# EAGLE library part ZX-EDGE (library yabus)
Opposite part for ZX-Spectrum system bus
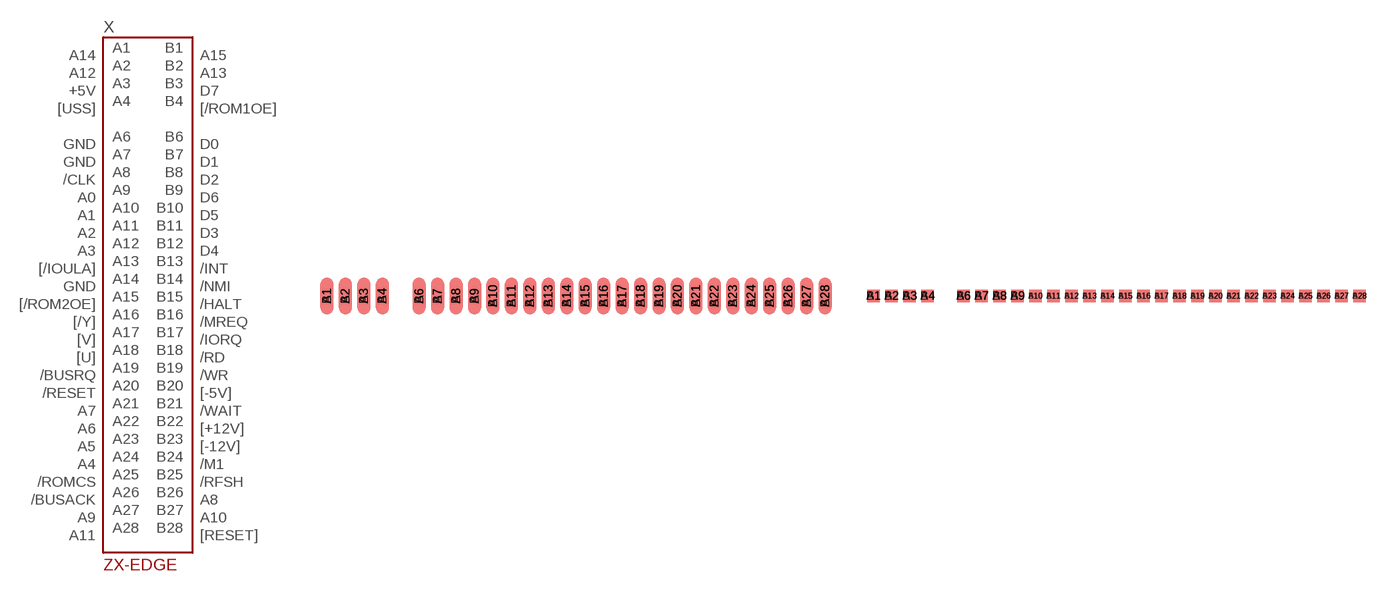
[diagram p0: symbol with the pads of ZX-IFACE; footprints ZX-IFACE, ZX-SLOT]

Designator prefix X

## ZX-EDGE  [ZX-IFACE]
A1  A14
A2  A12
A3  +5V
A4  [USS]
A6  GND
A7  GND
A8  /CLK
A9  A0
A10  A1
A11  A2
A12  A3
A13  [/IOULA]
A14  GND
A15  [/ROM2OE]
A16  [/Y]
A17  [V]
A18  [U]
A19  /BUSRQ
A20  /RESET
A21  A7
A22  A6
A23  A5
A24  A4
A25  /ROMCS
A26  /BUSACK
A27  A9
A28  A11
B1  A15
B2  A13
B3  D7
B4  [/ROM1OE]
B6  D0
B7  D1
B8  D2
B9  D6
B10  D5
B11  D3
B12  D4
B13  /INT
B14  /NMI
B15  /HALT
B16  /MREQ
B17  /IORQ
B18  /RD
B19  /WR
B20  [-5V]
B21  /WAIT
B22  [+12V]
B23  [-12V]
B24  /M1
B25  /RFSH
B26  A8
B27  A10
B28  [RESET]

## ZX-EDGEF  [ZX-SLOT]
Pads as for ZX-IFACE

## ZX-EDGET  [ZX-THR]
1A  A15
1B  A14
2A  A13
2B  A12
3A  D7
3B  +5V
4A  [/ROM1OE]
4B  [USS]
6A  D0
6B  GND
7A  D1
7B  GND
8A  D2
8B  /CLK
9A  D6
9B  A0
10A  D5
10B  A1
11A  D3
11B  A2
12A  D4
12B  A3
13A  /INT
13B  [/IOULA]
14A  /NMI
14B  GND
15A  /HALT
15B  [/ROM2OE]
16A  /MREQ
16B  [/Y]
17A  /IORQ
17B  [V]
18A  /RD
18B  [U]
19A  /WR
19B  /BUSRQ
20A  [-5V]
20B  /RESET
21A  /WAIT
21B  A7
22A  [+12V]
22B  A6
23A  [-12V]
23B  A5
24A  /M1
24B  A4
25A  /RFSH
25B  /ROMCS
26A  A8
26B  /BUSACK
27A  A10
27B  A9
28A  [RESET]
28B  A11

## Footprint ZX-IFACE (pad centres in mm)
smd 1.778 x 5.08 bottom: A1 0,0; A2 2.54,0; A3 5.08,0; A4 7.62,0; A6 12.7,0; A7 15.24,0; A8 17.78,0; A9 20.32,0; A10 22.86,0; A11 25.4,0; A12 27.94,0; A13 30.48,0; A14 33.02,0; A15 35.56,0; A16 38.1,0; A17 40.64,0; A18 43.18,0; A19 45.72,0; A20 48.26,0; A21 50.8,0; A22 53.34,0; A23 55.88,0; A24 58.42,0; A25 60.96,0; A26 63.5,0; A27 66.04,0; A28 68.58,0
smd 1.778 x 5.08: B1 0,0; B2 2.54,0; B3 5.08,0; B4 7.62,0; B6 12.7,0; B7 15.24,0; B8 17.78,0; B9 20.32,0; B10 22.86,0; B11 25.4,0; B12 27.94,0; B13 30.48,0; B14 33.02,0; B15 35.56,0; B16 38.1,0; B17 40.64,0; B18 43.18,0; B19 45.72,0; B20 48.26,0; B21 50.8,0; B22 53.34,0; B23 55.88,0; B24 58.42,0; B25 60.96,0; B26 63.5,0; B27 66.04,0; B28 68.58,0

## Footprint ZX-SLOT (pad centres in mm)
smd 1.778 x 1.778 bottom: A1 0,0; A2 2.54,0; A3 5.08,0; A4 7.62,0; A6 12.7,0; A7 15.24,0; A8 17.78,0; A9 20.32,0; A10 22.86,0; A11 25.4,0; A12 27.94,0; A13 30.48,0; A14 33.02,0; A15 35.56,0; A16 38.1,0; A17 40.64,0; A18 43.18,0; A19 45.72,0; A20 48.26,0; A21 50.8,0; A22 53.34,0; A23 55.88,0; A24 58.42,0; A25 60.96,0; A26 63.5,0; A27 66.04,0; A28 68.58,0
smd 1.778 x 1.778: B1 0,0; B2 2.54,0; B3 5.08,0; B4 7.62,0; B6 12.7,0; B7 15.24,0; B8 17.78,0; B9 20.32,0; B10 22.86,0; B11 25.4,0; B12 27.94,0; B13 30.48,0; B14 33.02,0; B15 35.56,0; B16 38.1,0; B17 40.64,0; B18 43.18,0; B19 45.72,0; B20 48.26,0; B21 50.8,0; B22 53.34,0; B23 55.88,0; B24 58.42,0; B25 60.96,0; B26 63.5,0; B27 66.04,0; B28 68.58,0

## Footprint ZX-THR (pad centres in mm)
drill 1.016 square: 1A -34.29,2.54
drill 1.016: 1B -34.29,-2.54; 2A -31.75,2.54; 2B -31.75,-2.54; 3A -29.21,2.54; 3B -29.21,-2.54; 4A -26.67,2.54; 4B -26.67,-2.54; 6A -21.59,2.54; 6B -21.59,-2.54; 7A -19.05,2.54; 7B -19.05,-2.54; 8A -16.51,2.54; 8B -16.51,-2.54; 9A -13.97,2.54; 9B -13.97,-2.54; 10A -11.43,2.54; 10B -11.43,-2.54; 11A -8.89,2.54; 11B -8.89,-2.54; 12A -6.35,2.54; 12B -6.35,-2.54; 13A -3.81,2.54; 13B -3.81,-2.54; 14A -1.27,2.54; 14B -1.27,-2.54; 15A 1.27,2.54; 15B 1.27,-2.54; 16A 3.81,2.54; 16B 3.81,-2.54; 17A 6.35,2.54; 17B 6.35,-2.54; 18A 8.89,2.54; 18B 8.89,-2.54; 19A 11.43,2.54; 19B 11.43,-2.54; 20A 13.97,2.54; 20B 13.97,-2.54; 21A 16.51,2.54; 21B 16.51,-2.54; 22A 19.05,2.54; 22B 19.05,-2.54; 23A 21.59,2.54; 23B 21.59,-2.54; 24A 24.13,2.54; 24B 24.13,-2.54; 25A 26.67,2.54; 25B 26.67,-2.54; 26A 29.21,2.54; 26B 29.21,-2.54; 27A 31.75,2.54; 27B 31.75,-2.54; 28A 34.29,2.54; 28B 34.29,-2.54